# EAGLE library part MAX232 (library #PaJa_31)
Prevodnik - RS-232 na CMOS/TTL a naopak
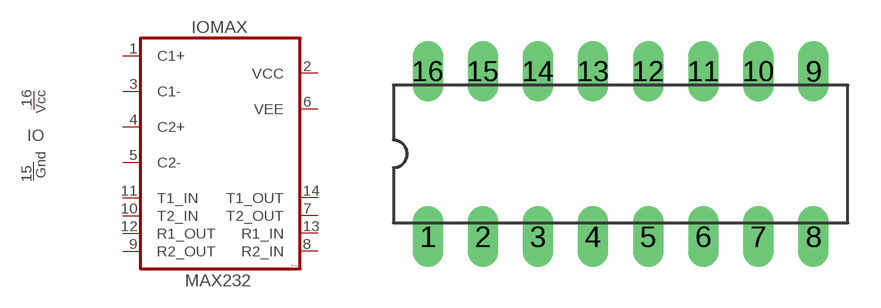
[diagram p36: symbol with the pads of DIL16; footprint DIL16]

Designator prefix IO; gates MAX=MAX232 N=POWER

## MAX232  [DIL16]
1  MAX:C1+
2  MAX:VCC
3  MAX:C1-
4  MAX:C2+
5  MAX:C2-
6  MAX:VEE
7  MAX:T2_OUT  out
8  MAX:R2_IN  in
9  MAX:R2_OUT  out
10  MAX:T2_IN  in
11  MAX:T1_IN  in
12  MAX:R1_OUT  out
13  MAX:R1_IN  in
14  MAX:T1_OUT  out
15  N:GND  pwr
16  N:VCC  pwr

## Footprint DIL16 (pad centres in mm)
drill 0.813 pad 1.4 long: 1 -8.89,-3.81; 2 -6.35,-3.81; 3 -3.81,-3.81; 4 -1.27,-3.81; 5 1.27,-3.81; 6 3.81,-3.81; 7 6.35,-3.81; 8 8.89,-3.81; 9 8.89,3.81; 10 6.35,3.81; 11 3.81,3.81; 12 1.27,3.81; 13 -1.27,3.81; 14 -3.81,3.81; 15 -6.35,3.81; 16 -8.89,3.81